# EAGLE library part N35P112 (library SparkFun-Electromechanical)
Hall-effect based I2C analog mini-joystick with button
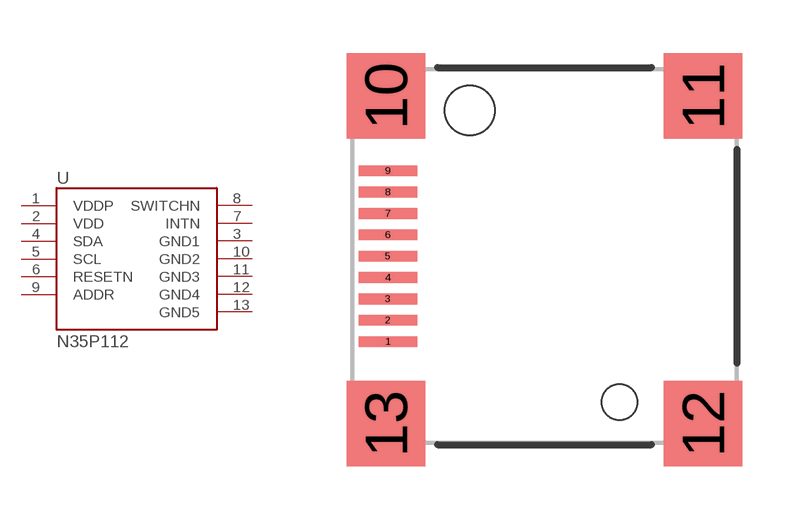
[diagram p7: symbol with the pads of N35P112; footprint N35P112]

Designator prefix U

## N35P112  [N35P112]
1  VDDP
2  VDD
3  GND1
4  SDA
5  SCL
6  RESETN
7  INTN
8  SWITCHN
9  ADDR
10  GND2
11  GND3
12  GND4
13  GND5

## Footprint N35P112 (pad centres in mm)
smd 1.65 x 0.3: 1 -4.4,-2.4; 2 -4.4,-1.8; 3 -4.4,-1.2; 4 -4.4,-0.6; 5 -4.4,0; 6 -4.4,0.6; 7 -4.4,1.2; 8 -4.4,1.8; 9 -4.4,2.4
smd 2.2 x 2.4: 10 -4.45,4.5; 11 4.45,4.5; 12 4.45,-4.7; 13 -4.45,-4.7
hole 1.4 at -2.1,4.1
hole 1 at 2.1,-4.1